# Altium footprint library LMG3100R017.PcbLib: 1 footprints
Each footprint in its own frame and in the unit in brackets; x right, y up, seen from the top. Pads: shape width x height; smd on the part's side, far side on the other; paste and mask are expansions set on the pad; w line width, h text height; cw(c..) or ccw(c..) is an arc to the next point about the centre after c.
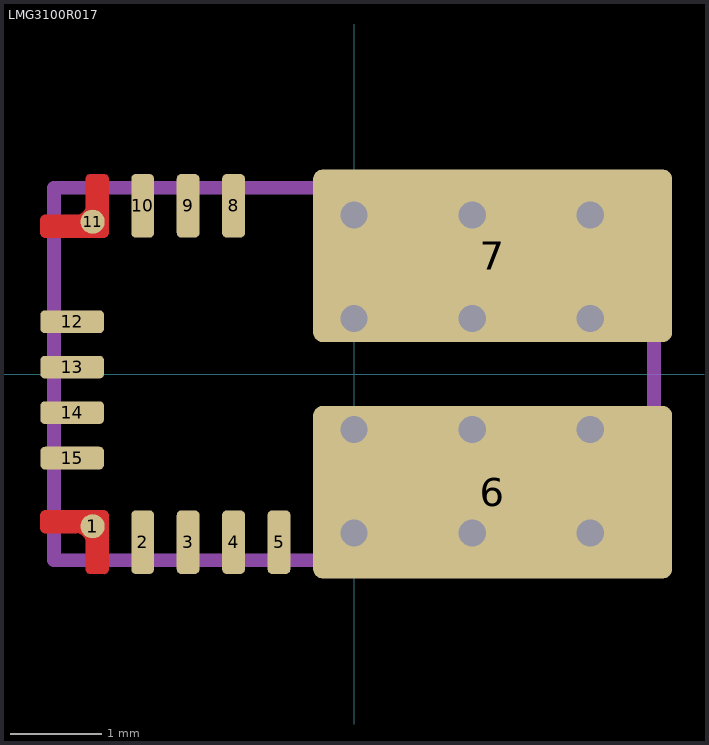
[diagram p0: the footprint, top view; thin cyan lines are the x and y axes]

## LMG3100R017 [mm]
pads (15):
  round 0.265 smd paste+0 mask-1000: 1(-2.875,-1.675) 11(-2.875,1.675)
  rrect40% 0.25x0.7 smd paste+0 mask-1000: 2(-2.325,-1.85) 3(-1.825,-1.85) 4(-1.325,-1.85) 5(-0.825,-1.85) 8(-1.325,1.85) 9(-1.825,1.85) 10(-2.325,1.85)
  rrect11% 3.95x1.9 all layers, no hole paste-1000 mask-1000: 6(1.525,-1.3) 7(1.525,1.3)
  rrect40% 0.7x0.25 smd paste+0 mask-1000: 12(-3.1,0.575) 13(-3.1,0.075) 14(-3.1,-0.425) 15(-3.1,-0.925)
via 2.6,-0.61 diameter 0.5 hole 0.3
via 1.3,-0.61 diameter 0.5 hole 0.3
via 0,-0.61 diameter 0.5 hole 0.3
via 2.6,0.61 diameter 0.5 hole 0.3
via 1.3,0.61 diameter 0.5 hole 0.3
via 0,0.61 diameter 0.5 hole 0.3
via 2.6,1.75 diameter 0.5 hole 0.3
via 1.3,1.75 diameter 0.5 hole 0.3
via 0,1.75 diameter 0.5 hole 0.3
via 2.6,-1.75 diameter 0.5 hole 0.3
via 1.3,-1.75 diameter 0.5 hole 0.3
via 0,-1.75 diameter 0.5 hole 0.3
Top Layer:
  region: -2.7,2.15 -2.7,2.16 -2.708,2.178 -2.722,2.192 -2.74,2.2 -2.75,2.2 -2.9,2.2 -2.91,2.2 -2.928,2.192 -2.942,2.178 -2.95,2.16 -2.95,2.15 -2.95,1.85 -2.952,1.83 -2.967,1.794 -2.994,1.767 -3.03,1.752 -3.05,1.75 -3.4,1.75 -3.41,1.75 -3.428,1.742 -3.442,1.728 -3.45,1.71 -3.45,1.7 -3.45,1.55 -3.45,1.54 -3.442,1.522 -3.428,1.508 -3.41,1.5 -3.4,1.5 -2.75,1.5 -2.74,1.5 -2.722,1.508 -2.708,1.522 -2.7,1.54 -2.7,1.55
  region: -2.7,-2.15 -2.7,-2.16 -2.708,-2.178 -2.722,-2.192 -2.74,-2.2 -2.75,-2.2 -2.9,-2.2 -2.91,-2.2 -2.928,-2.192 -2.942,-2.178 -2.95,-2.16 -2.95,-2.15 -2.95,-1.85 -2.952,-1.83 -2.967,-1.794 -2.994,-1.767 -3.03,-1.752 -3.05,-1.75 -3.4,-1.75 -3.41,-1.75 -3.428,-1.742 -3.442,-1.728 -3.45,-1.71 -3.45,-1.7 -3.45,-1.55 -3.45,-1.54 -3.442,-1.522 -3.428,-1.508 -3.41,-1.5 -3.4,-1.5 -2.75,-1.5 -2.74,-1.5 -2.722,-1.508 -2.708,-1.522 -2.7,-1.54 -2.7,-1.55
Top Paste:
  drawing of 24 lines, arcs and shapes, not listed
Top Solder:
  drawing of 15 lines, arcs and shapes, not listed
Mechanical 1:
  lines w0.15: -3.3,-2.05 3.3,-2.05 3.3,2.05 -3.3,2.05 -3.3,-2.05
3D body "LMG3100R017.step": height 0.86, standoff 0, extent -3.25,-2 3.25,2